# Altium integrated library Linear Technology PMIC-Switching Reg LTC1174-LTC3901.IntLib: 2647 symbols (part 121 of 310)
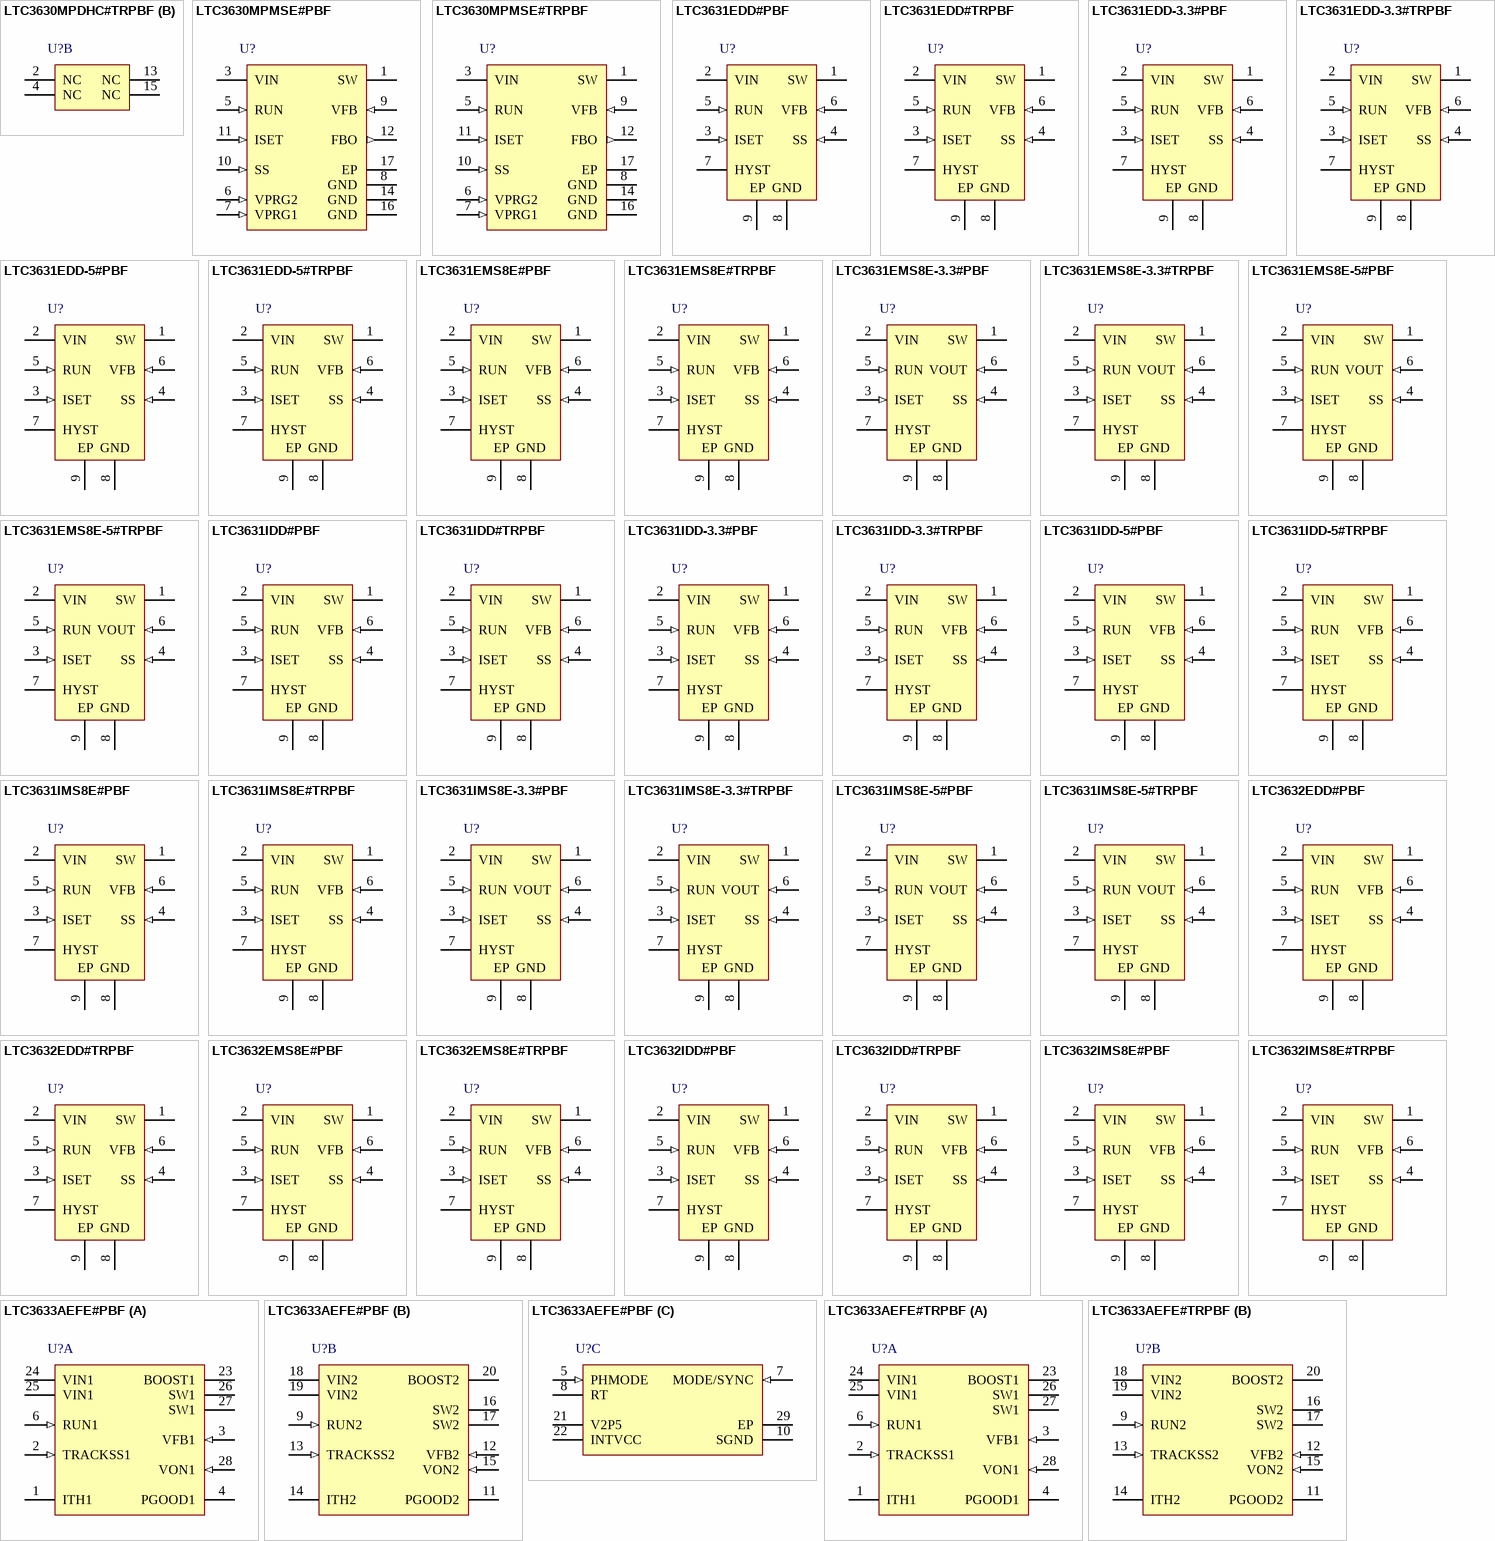
[diagram p185: symbols LTC3630MPDHC#TRPBF to LTC3633AEFE#TRPBF]

## LTC3631EMS8E#PBF
designator U?
High Efficiency, High Voltage 100 mA Synchronous Step-Down Converter, 8-pin SOP (MS8E-8), -40 to 125 degC, Pb-Free; Manufacturer: Linear Technology; PartNumber: LTC3631EMS8E#PBF; Number of Outputs: 1; Over Voltage Protection(V): 60; PackageReference: MS8E-8; PackageDescription: 8-Pin Plastic MSOP, Exposed Die Pad, Body 3 x 3 mm, Pitch 0.65 mm; Supplier 1: Digi-Key; Supplier Part Number 1: LTC3631EMS8E#PBF-ND; RoHS: TRUE
footprint LT-MS8E-8-1880X1680TP_N (SOP, 8-Leads, Body 3.1x3.1mm, Pitch 0.65mm, Thermal Pad 1.88x1.68mm, IPC Medium Density)
footprint LT-MS8E-8-1880X1680TP_L (SOP, 8-Leads, Body 3.1x3.1mm, Pitch 0.65mm, Thermal Pad 1.88x1.68mm, IPC High Density)
footprint LT-MS8E-8-1880X1680TP_M (SOP, 8-Leads, Body 3.1x3.1mm, Pitch 0.65mm, Thermal Pad 1.88x1.68mm, IPC Low Density)
pins: 1 SW (power) "Switch Node Connection to Inductor. This pin connects to the drains of the internal power MOSFET switches.", 2 VIN (power) "Main Supply Pin. A ceramic bypass capacitor should be tied between this pin and GND (Pin 8).", 3 ISET (in), 4 SS (in), 5 RUN (in), 6 VFB (in) "Ground Connection for Internal Circuitry and Power Path Return. Tie directly to local ground plane.", 7 HYST (oc), 8 GND (power) "Ground.", 9 EP (power) "The exposed pad must be soldered to the printed circuit board ground plane for optimal electrical and thermal performance."

## LTC3631EMS8E#TRPBF
designator U?
High Efficiency, High Voltage 100 mA Synchronous Step-Down Converter, 8-pin SOP (MS8E-8), -40 to 125 degC, Pb-Free, Tape and Reel; Manufacturer: Linear Technology; PartNumber: LTC3631EMS8E#TRPBF; Number of Outputs: 1; Over Voltage Protection(V): 60; PackageReference: MS8E-8; PackageDescription: 8-Pin Plastic MSOP, Exposed Die Pad, Body 3 x 3 mm, Pitch 0.65 mm; Supplier 1: Digi-Key; Supplier Part Number 1: LTC3631EMS8E#TRPBF-ND; RoHS: TRUE
footprint LT-MS8E-8-1880X1680TP_N (SOP, 8-Leads, Body 3.1x3.1mm, Pitch 0.65mm, Thermal Pad 1.88x1.68mm, IPC Medium Density)
footprint LT-MS8E-8-1880X1680TP_L (SOP, 8-Leads, Body 3.1x3.1mm, Pitch 0.65mm, Thermal Pad 1.88x1.68mm, IPC High Density)
footprint LT-MS8E-8-1880X1680TP_M (SOP, 8-Leads, Body 3.1x3.1mm, Pitch 0.65mm, Thermal Pad 1.88x1.68mm, IPC Low Density)
pins: 1 SW (power) "Switch Node Connection to Inductor. This pin connects to the drains of the internal power MOSFET switches.", 2 VIN (power) "Main Supply Pin. A ceramic bypass capacitor should be tied between this pin and GND (Pin 8).", 3 ISET (in), 4 SS (in), 5 RUN (in), 6 VFB (in) "Ground Connection for Internal Circuitry and Power Path Return. Tie directly to local ground plane.", 7 HYST (oc), 8 GND (power) "Ground.", 9 EP (power) "The exposed pad must be soldered to the printed circuit board ground plane for optimal electrical and thermal performance."

## LTC3631EMS8E-3.3#PBF
designator U?
High Efficiency, High Voltage 100 mA Synchronous Step-Down Converter, 8-pin SOP (MS8E-8), -40 to 125 degC, Pb-Free; Manufacturer: Linear Technology; PartNumber: LTC3631EMS8E-3.3#PBF; Number of Outputs: 1; Over Voltage Protection(V): 60; PackageReference: MS8E-8; PackageDescription: 8-Pin Plastic MSOP, Exposed Die Pad, Body 3 x 3 mm, Pitch 0.65 mm; Supplier 1: Digi-Key; Supplier Part Number 1: LTC3631EMS8E-3.3#PBF-ND; RoHS: TRUE
footprint LT-MS8E-8-1880X1680TP_N (SOP, 8-Leads, Body 3.1x3.1mm, Pitch 0.65mm, Thermal Pad 1.88x1.68mm, IPC Medium Density)
footprint LT-MS8E-8-1880X1680TP_L (SOP, 8-Leads, Body 3.1x3.1mm, Pitch 0.65mm, Thermal Pad 1.88x1.68mm, IPC High Density)
footprint LT-MS8E-8-1880X1680TP_M (SOP, 8-Leads, Body 3.1x3.1mm, Pitch 0.65mm, Thermal Pad 1.88x1.68mm, IPC Low Density)
pins: 1 SW (power) "Switch Node Connection to Inductor. This pin connects to the drains of the internal power MOSFET switches.", 2 VIN (power) "Main Supply Pin. A ceramic bypass capacitor should be tied between this pin and GND (Pin 8).", 3 ISET (in), 4 SS (in) "Soft-Start Control Input. A capacitor to ground at this pin sets the ramp time to full current output during start-up. A 5uA current is sourced out of this pin. If left floating, the ramp time defaults to an internal 0.75ms (See Datasheet)", 5 RUN (in), 6 VOUT (in) "Output Voltage Feedback. For the fixed output versions, connect this pin to the output supply.", 7 HYST (oc) "Run Hysteresis Open-Drain Logic Output. This pin is pulled to ground when RUN (Pin 5) is below 1.2V. This pin can be used to adjust the RUN pin hysteresis. See Applications Information.", 8 GND (power) "Ground.", 9 EP (power) "The exposed pad must be soldered to the printed circuit board ground plane for optimal electrical and thermal performance."

## LTC3631EMS8E-3.3#TRPBF
designator U?
High Efficiency, High Voltage 100 mA Synchronous Step-Down Converter, 8-pin SOP (MS8E-8), -40 to 125 degC, Pb-Free, Tape and Reel; Manufacturer: Linear Technology; PartNumber: LTC3631EMS8E-3.3#TRPBF; Number of Outputs: 1; Over Voltage Protection(V): 60; PackageReference: MS8E-8; PackageDescription: 8-Pin Plastic MSOP, Exposed Die Pad, Body 3 x 3 mm, Pitch 0.65 mm; Supplier 1: Digi-Key; Supplier Part Number 1: LTC3631EMS8E-3.3#TRPBF-ND; RoHS: TRUE
footprint LT-MS8E-8-1880X1680TP_N (SOP, 8-Leads, Body 3.1x3.1mm, Pitch 0.65mm, Thermal Pad 1.88x1.68mm, IPC Medium Density)
footprint LT-MS8E-8-1880X1680TP_L (SOP, 8-Leads, Body 3.1x3.1mm, Pitch 0.65mm, Thermal Pad 1.88x1.68mm, IPC High Density)
footprint LT-MS8E-8-1880X1680TP_M (SOP, 8-Leads, Body 3.1x3.1mm, Pitch 0.65mm, Thermal Pad 1.88x1.68mm, IPC Low Density)
pins: 1 SW (power) "Switch Node Connection to Inductor. This pin connects to the drains of the internal power MOSFET switches.", 2 VIN (power) "Main Supply Pin. A ceramic bypass capacitor should be tied between this pin and GND (Pin 8).", 3 ISET (in), 4 SS (in) "Soft-Start Control Input. A capacitor to ground at this pin sets the ramp time to full current output during start-up. A 5uA current is sourced out of this pin. If left floating, the ramp time defaults to an internal 0.75ms (See Datasheet)", 5 RUN (in), 6 VOUT (in) "Output Voltage Feedback. For the fixed output versions, connect this pin to the output supply.", 7 HYST (oc) "Run Hysteresis Open-Drain Logic Output. This pin is pulled to ground when RUN (Pin 5) is below 1.2V. This pin can be used to adjust the RUN pin hysteresis. See Applications Information.", 8 GND (power) "Ground.", 9 EP (power) "The exposed pad must be soldered to the printed circuit board ground plane for optimal electrical and thermal performance."

## LTC3631EMS8E-5#PBF
designator U?
High Efficiency, High Voltage 100 mA Synchronous Step-Down Converter, 8-pin SOP (MS8E-8), -40 to 125 degC, Pb-Free; Manufacturer: Linear Technology; PartNumber: LTC3631EMS8E-5#PBF; Number of Outputs: 1; Over Voltage Protection(V): 60; PackageReference: MS8E-8; PackageDescription: 8-Pin Plastic MSOP, Exposed Die Pad, Body 3 x 3 mm, Pitch 0.65 mm; Supplier 1: Digi-Key; Supplier Part Number 1: LTC3631EMS8E-5#PBF-ND; RoHS: TRUE
footprint LT-MS8E-8-1880X1680TP_N (SOP, 8-Leads, Body 3.1x3.1mm, Pitch 0.65mm, Thermal Pad 1.88x1.68mm, IPC Medium Density)
footprint LT-MS8E-8-1880X1680TP_L (SOP, 8-Leads, Body 3.1x3.1mm, Pitch 0.65mm, Thermal Pad 1.88x1.68mm, IPC High Density)
footprint LT-MS8E-8-1880X1680TP_M (SOP, 8-Leads, Body 3.1x3.1mm, Pitch 0.65mm, Thermal Pad 1.88x1.68mm, IPC Low Density)
pins: 1 SW (power) "Switch Node Connection to Inductor. This pin connects to the drains of the internal power MOSFET switches.", 2 VIN (power) "Main Supply Pin. A ceramic bypass capacitor should be tied between this pin and GND (Pin 8).", 3 ISET (in), 4 SS (in) "Soft-Start Control Input. A capacitor to ground at this pin sets the ramp time to full current output during start-up. A 5uA current is sourced out of this pin. If left floating, the ramp time defaults to an internal 0.75ms (See Datasheet)", 5 RUN (in), 6 VOUT (in) "Output Voltage Feedback. For the fixed output versions, connect this pin to the output supply.", 7 HYST (oc) "Run Hysteresis Open-Drain Logic Output. This pin is pulled to ground when RUN (Pin 5) is below 1.2V. This pin can be used to adjust the RUN pin hysteresis. See Applications Information.", 8 GND (power) "Ground.", 9 EP (power) "The exposed pad must be soldered to the printed circuit board ground plane for optimal electrical and thermal performance."

## LTC3631EMS8E-5#TRPBF
designator U?
High Efficiency, High Voltage 100 mA Synchronous Step-Down Converter, 8-pin SOP (MS8E-8), -40 to 125 degC, Pb-Free, Tape and Reel; Manufacturer: Linear Technology; PartNumber: LTC3631EMS8E-5#TRPBF; Number of Outputs: 1; Over Voltage Protection(V): 60; PackageReference: MS8E-8; PackageDescription: 8-Pin Plastic MSOP, Exposed Die Pad, Body 3 x 3 mm, Pitch 0.65 mm; Supplier 1: Digi-Key; Supplier Part Number 1: LTC3631EMS8E-5#TRPBFTR-ND; RoHS: TRUE
footprint LT-MS8E-8-1880X1680TP_N (SOP, 8-Leads, Body 3.1x3.1mm, Pitch 0.65mm, Thermal Pad 1.88x1.68mm, IPC Medium Density)
footprint LT-MS8E-8-1880X1680TP_L (SOP, 8-Leads, Body 3.1x3.1mm, Pitch 0.65mm, Thermal Pad 1.88x1.68mm, IPC High Density)
footprint LT-MS8E-8-1880X1680TP_M (SOP, 8-Leads, Body 3.1x3.1mm, Pitch 0.65mm, Thermal Pad 1.88x1.68mm, IPC Low Density)
pins: 1 SW (power) "Switch Node Connection to Inductor. This pin connects to the drains of the internal power MOSFET switches.", 2 VIN (power) "Main Supply Pin. A ceramic bypass capacitor should be tied between this pin and GND (Pin 8).", 3 ISET (in), 4 SS (in) "Soft-Start Control Input. A capacitor to ground at this pin sets the ramp time to full current output during start-up. A 5uA current is sourced out of this pin. If left floating, the ramp time defaults to an internal 0.75ms (See Datasheet)", 5 RUN (in), 6 VOUT (in) "Output Voltage Feedback. For the fixed output versions, connect this pin to the output supply.", 7 HYST (oc) "Run Hysteresis Open-Drain Logic Output. This pin is pulled to ground when RUN (Pin 5) is below 1.2V. This pin can be used to adjust the RUN pin hysteresis. See Applications Information.", 8 GND (power) "Ground.", 9 EP (power) "The exposed pad must be soldered to the printed circuit board ground plane for optimal electrical and thermal performance."

## LTC3631IDD#PBF
designator U?
High Efficiency, High Voltage 100 mA Synchronous Step-Down Converter, 8-pin SON (DD-8), -40 to 125 degC, Pb-Free; Manufacturer: Linear Technology; PartNumber: LTC3631IDD#PBF; Number of Outputs: 1; Over Voltage Protection(V): 60; PackageReference: DD-8; PackageDescription: 8-Pin Plastic DFN, Body 3 x 3 mm, Pitch 0.5 mm; Supplier 1: Digi-Key; Supplier Part Number 1: LTC3631IDD#PBF-ND; RoHS: TRUE; Code_JEDEC: MO-229
footprint LT-DD-8_V (SON, 8-Leads, Body 3x3mm, Pitch 0.5mm, Thermal Pad 1.65x2.38 mm)
pins: 1 SW (power) "Switch Node Connection to Inductor. This pin connects to the drains of the internal power MOSFET switches.", 2 VIN (power) "Main Supply Pin. A ceramic bypass capacitor should be tied between this pin and GND (Pin 8).", 3 ISET (in), 4 SS (in) "Soft-Start Control Input. A capacitor to ground at this pin sets the ramp time to full current output during start-up. A 5uA current is sourced out of this pin. If left floating, the ramp time defaults to an internal 0.75ms (See Datasheet)", 5 RUN (in), 6 VFB (in) "Output Voltage Feedback. For the fixed output versions, connect this pin to the output supply. For the adjustable version, an external resistive divider should be used to divide the output voltage down for comparison to the (See Datasheet)", 7 HYST (oc) "Run Hysteresis Open-Drain Logic Output. This pin is pulled to ground when RUN (Pin 5) is below 1.2V. This pin can be used to adjust the RUN pin hysteresis. See Applications Information.", 8 GND (power) "Ground. The exposed pad must be soldered to the printed circuit board ground plane for optimal electrical and thermal performance.", 9 EP (power) "Ground. The exposed pad must be soldered to the printed circuit board ground plane for optimal electrical and thermal performance."

## LTC3631IDD#TRPBF
designator U?
High Efficiency, High Voltage 100 mA Synchronous Step-Down Converter, 8-pin SON (DD-8), -40 to 125 degC, Pb-Free, Tape and Reel; Manufacturer: Linear Technology; PartNumber: LTC3631IDD#TRPBF; Number of Outputs: 1; Over Voltage Protection(V): 60; PackageReference: DD-8; PackageDescription: 8-Pin Plastic DFN, Body 3 x 3 mm, Pitch 0.5 mm; Supplier 1: Digi-Key; Supplier Part Number 1: LTC3631IDD#TRPBF-ND; RoHS: TRUE; Code_JEDEC: MO-229
footprint LT-DD-8_V (SON, 8-Leads, Body 3x3mm, Pitch 0.5mm, Thermal Pad 1.65x2.38 mm)
pins: 1 SW (power) "Switch Node Connection to Inductor. This pin connects to the drains of the internal power MOSFET switches.", 2 VIN (power) "Main Supply Pin. A ceramic bypass capacitor should be tied between this pin and GND (Pin 8).", 3 ISET (in), 4 SS (in) "Soft-Start Control Input. A capacitor to ground at this pin sets the ramp time to full current output during start-up. A 5uA current is sourced out of this pin. If left floating, the ramp time defaults to an internal 0.75ms (See Datasheet)", 5 RUN (in), 6 VFB (in) "Output Voltage Feedback. For the fixed output versions, connect this pin to the output supply. For the adjustable version, an external resistive divider should be used to divide the output voltage down for comparison to the (See Datasheet)", 7 HYST (oc) "Run Hysteresis Open-Drain Logic Output. This pin is pulled to ground when RUN (Pin 5) is below 1.2V. This pin can be used to adjust the RUN pin hysteresis. See Applications Information.", 8 GND (power) "Ground. The exposed pad must be soldered to the printed circuit board ground plane for optimal electrical and thermal performance.", 9 EP (power) "Ground. The exposed pad must be soldered to the printed circuit board ground plane for optimal electrical and thermal performance."

## LTC3631IDD-3.3#PBF
designator U?
High Efficiency, High Voltage 100 mA Synchronous Step-Down Converter, 8-pin SON (DD-8), -40 to 125 degC, Pb-Free; Manufacturer: Linear Technology; PartNumber: LTC3631IDD-3.3#PBF; Number of Outputs: 1; Over Voltage Protection(V): 60; PackageReference: DD-8; PackageDescription: 8-Pin Plastic DFN, Body 3 x 3 mm, Pitch 0.5 mm; Supplier 1: Digi-Key; Supplier Part Number 1: LTC3631IDD-3.3#PBF-ND; RoHS: TRUE; Code_JEDEC: MO-229
footprint LT-DD-8_V (SON, 8-Leads, Body 3x3mm, Pitch 0.5mm, Thermal Pad 1.65x2.38 mm)
pins: 1 SW (power) "Switch Node Connection to Inductor. This pin connects to the drains of the internal power MOSFET switches.", 2 VIN (power) "Main Supply Pin. A ceramic bypass capacitor should be tied between this pin and GND (Pin 8).", 3 ISET (in), 4 SS (in) "Soft-Start Control Input. A capacitor to ground at this pin sets the ramp time to full current output during start-up. A 5uA current is sourced out of this pin. If left floating, the ramp time defaults to an internal 0.75ms (See Datasheet)", 5 RUN (in), 6 VFB (in) "Output Voltage Feedback. For the fixed output versions, connect this pin to the output supply. For the adjustable version, an external resistive divider should be used to divide the output voltage down for comparison to the (See Datasheet)", 7 HYST (oc) "Run Hysteresis Open-Drain Logic Output. This pin is pulled to ground when RUN (Pin 5) is below 1.2V. This pin can be used to adjust the RUN pin hysteresis. See Applications Information.", 8 GND (power) "Ground. The exposed pad must be soldered to the printed circuit board ground plane for optimal electrical and thermal performance.", 9 EP (power) "Ground. The exposed pad must be soldered to the printed circuit board ground plane for optimal electrical and thermal performance."

## LTC3631IDD-3.3#TRPBF
designator U?
High Efficiency, High Voltage 100 mA Synchronous Step-Down Converter, 8-pin SON (DD-8), -40 to 125 degC, Pb-Free, Tape and Reel; Manufacturer: Linear Technology; PartNumber: LTC3631IDD-3.3#TRPBF; Number of Outputs: 1; Over Voltage Protection(V): 60; PackageReference: DD-8; PackageDescription: 8-Pin Plastic DFN, Body 3 x 3 mm, Pitch 0.5 mm; Supplier 1: Digi-Key; Supplier Part Number 1: LTC3631IDD-3.3#TRPBF-ND; RoHS: TRUE; Code_JEDEC: MO-229
footprint LT-DD-8_V (SON, 8-Leads, Body 3x3mm, Pitch 0.5mm, Thermal Pad 1.65x2.38 mm)
pins: 1 SW (power) "Switch Node Connection to Inductor. This pin connects to the drains of the internal power MOSFET switches.", 2 VIN (power) "Main Supply Pin. A ceramic bypass capacitor should be tied between this pin and GND (Pin 8).", 3 ISET (in), 4 SS (in) "Soft-Start Control Input. A capacitor to ground at this pin sets the ramp time to full current output during start-up. A 5uA current is sourced out of this pin. If left floating, the ramp time defaults to an internal 0.75ms (See Datasheet)", 5 RUN (in), 6 VFB (in) "Output Voltage Feedback. For the fixed output versions, connect this pin to the output supply. For the adjustable version, an external resistive divider should be used to divide the output voltage down for comparison to the (See Datasheet)", 7 HYST (oc) "Run Hysteresis Open-Drain Logic Output. This pin is pulled to ground when RUN (Pin 5) is below 1.2V. This pin can be used to adjust the RUN pin hysteresis. See Applications Information.", 8 GND (power) "Ground. The exposed pad must be soldered to the printed circuit board ground plane for optimal electrical and thermal performance.", 9 EP (power) "Ground. The exposed pad must be soldered to the printed circuit board ground plane for optimal electrical and thermal performance."

## LTC3631IDD-5#PBF
designator U?
High Efficiency, High Voltage 100 mA Synchronous Step-Down Converter, 8-pin SON (DD-8), -40 to 125 degC, Pb-Free; Manufacturer: Linear Technology; PartNumber: LTC3631IDD-5#PBF; Number of Outputs: 1; Over Voltage Protection(V): 60; PackageReference: DD-8; PackageDescription: 8-Pin Plastic DFN, Body 3 x 3 mm, Pitch 0.5 mm; Supplier 1: Digi-Key; Supplier Part Number 1: LTC3631IDD-5#PBF-ND; RoHS: TRUE; Code_JEDEC: MO-229
footprint LT-DD-8_V (SON, 8-Leads, Body 3x3mm, Pitch 0.5mm, Thermal Pad 1.65x2.38 mm)
pins: 1 SW (power) "Switch Node Connection to Inductor. This pin connects to the drains of the internal power MOSFET switches.", 2 VIN (power) "Main Supply Pin. A ceramic bypass capacitor should be tied between this pin and GND (Pin 8).", 3 ISET (in), 4 SS (in) "Soft-Start Control Input. A capacitor to ground at this pin sets the ramp time to full current output during start-up. A 5uA current is sourced out of this pin. If left floating, the ramp time defaults to an internal 0.75ms (See Datasheet)", 5 RUN (in), 6 VFB (in) "Output Voltage Feedback. For the fixed output versions, connect this pin to the output supply. For the adjustable version, an external resistive divider should be used to divide the output voltage down for comparison to the (See Datasheet)", 7 HYST (oc) "Run Hysteresis Open-Drain Logic Output. This pin is pulled to ground when RUN (Pin 5) is below 1.2V. This pin can be used to adjust the RUN pin hysteresis. See Applications Information.", 8 GND (power) "Ground. The exposed pad must be soldered to the printed circuit board ground plane for optimal electrical and thermal performance.", 9 EP (power) "Ground. The exposed pad must be soldered to the printed circuit board ground plane for optimal electrical and thermal performance."

## LTC3631IDD-5#TRPBF
designator U?
High Efficiency, High Voltage 100 mA Synchronous Step-Down Converter, 8-pin SON (DD-8), -40 to 125 degC, Pb-Free, Tape and Reel; Manufacturer: Linear Technology; PartNumber: LTC3631IDD-5#TRPBF; Number of Outputs: 1; Over Voltage Protection(V): 60; PackageReference: DD-8; PackageDescription: 8-Pin Plastic DFN, Body 3 x 3 mm, Pitch 0.5 mm; Supplier 1: Digi-Key; Supplier Part Number 1: LTC3631IDD-5#TRPBF-ND; RoHS: TRUE; Code_JEDEC: MO-229
footprint LT-DD-8_V (SON, 8-Leads, Body 3x3mm, Pitch 0.5mm, Thermal Pad 1.65x2.38 mm)
pins: 1 SW (power) "Switch Node Connection to Inductor. This pin connects to the drains of the internal power MOSFET switches.", 2 VIN (power) "Main Supply Pin. A ceramic bypass capacitor should be tied between this pin and GND (Pin 8).", 3 ISET (in), 4 SS (in) "Soft-Start Control Input. A capacitor to ground at this pin sets the ramp time to full current output during start-up. A 5uA current is sourced out of this pin. If left floating, the ramp time defaults to an internal 0.75ms (See Datasheet)", 5 RUN (in), 6 VFB (in) "Output Voltage Feedback. For the fixed output versions, connect this pin to the output supply. For the adjustable version, an external resistive divider should be used to divide the output voltage down for comparison to the (See Datasheet)", 7 HYST (oc) "Run Hysteresis Open-Drain Logic Output. This pin is pulled to ground when RUN (Pin 5) is below 1.2V. This pin can be used to adjust the RUN pin hysteresis. See Applications Information.", 8 GND (power) "Ground. The exposed pad must be soldered to the printed circuit board ground plane for optimal electrical and thermal performance.", 9 EP (power) "Ground. The exposed pad must be soldered to the printed circuit board ground plane for optimal electrical and thermal performance."

## LTC3631IMS8E#PBF
designator U?
High Efficiency, High Voltage 100 mA Synchronous Step-Down Converter, 8-pin SOP (MS8E-8), -40 to 125 degC, Pb-Free; Manufacturer: Linear Technology; PartNumber: LTC3631IMS8E#PBF; Number of Outputs: 1; Over Voltage Protection(V): 60; PackageReference: MS8E-8; PackageDescription: 8-Pin Plastic MSOP, Exposed Die Pad, Body 3 x 3 mm, Pitch 0.65 mm; Supplier 1: Digi-Key; Supplier Part Number 1: LTC3631IMS8E#PBF-ND; RoHS: TRUE
footprint LT-MS8E-8-1880X1680TP_N (SOP, 8-Leads, Body 3.1x3.1mm, Pitch 0.65mm, Thermal Pad 1.88x1.68mm, IPC Medium Density)
footprint LT-MS8E-8-1880X1680TP_L (SOP, 8-Leads, Body 3.1x3.1mm, Pitch 0.65mm, Thermal Pad 1.88x1.68mm, IPC High Density)
footprint LT-MS8E-8-1880X1680TP_M (SOP, 8-Leads, Body 3.1x3.1mm, Pitch 0.65mm, Thermal Pad 1.88x1.68mm, IPC Low Density)
pins: 1 SW (power) "Switch Node Connection to Inductor. This pin connects to the drains of the internal power MOSFET switches.", 2 VIN (power) "Main Supply Pin. A ceramic bypass capacitor should be tied between this pin and GND (Pin 8).", 3 ISET (in), 4 SS (in), 5 RUN (in), 6 VFB (in) "Ground Connection for Internal Circuitry and Power Path Return. Tie directly to local ground plane.", 7 HYST (oc), 8 GND (power) "Ground.", 9 EP (power) "The exposed pad must be soldered to the printed circuit board ground plane for optimal electrical and thermal performance."

## LTC3631IMS8E#TRPBF
designator U?
High Efficiency, High Voltage 100 mA Synchronous Step-Down Converter, 8-pin SOP (MS8E-8), -40 to 125 degC, Pb-Free, Tape and Reel; Manufacturer: Linear Technology; PartNumber: LTC3631IMS8E#TRPBF; Number of Outputs: 1; Over Voltage Protection(V): 60; PackageReference: MS8E-8; PackageDescription: 8-Pin Plastic MSOP, Exposed Die Pad, Body 3 x 3 mm, Pitch 0.65 mm; Supplier 1: Digi-Key; Supplier Part Number 1: LTC3631IMS8E#TRPBF-ND; RoHS: TRUE
footprint LT-MS8E-8-1880X1680TP_N (SOP, 8-Leads, Body 3.1x3.1mm, Pitch 0.65mm, Thermal Pad 1.88x1.68mm, IPC Medium Density)
footprint LT-MS8E-8-1880X1680TP_L (SOP, 8-Leads, Body 3.1x3.1mm, Pitch 0.65mm, Thermal Pad 1.88x1.68mm, IPC High Density)
footprint LT-MS8E-8-1880X1680TP_M (SOP, 8-Leads, Body 3.1x3.1mm, Pitch 0.65mm, Thermal Pad 1.88x1.68mm, IPC Low Density)
pins: 1 SW (power) "Switch Node Connection to Inductor. This pin connects to the drains of the internal power MOSFET switches.", 2 VIN (power) "Main Supply Pin. A ceramic bypass capacitor should be tied between this pin and GND (Pin 8).", 3 ISET (in), 4 SS (in), 5 RUN (in), 6 VFB (in) "Ground Connection for Internal Circuitry and Power Path Return. Tie directly to local ground plane.", 7 HYST (oc), 8 GND (power) "Ground.", 9 EP (power) "The exposed pad must be soldered to the printed circuit board ground plane for optimal electrical and thermal performance."

## LTC3631IMS8E-3.3#PBF
designator U?
High Efficiency, High Voltage 100 mA Synchronous Step-Down Converter, 8-pin SOP (MS8E-8), -40 to 125 degC, Pb-Free; Manufacturer: Linear Technology; PartNumber: LTC3631IMS8E-3.3#PBF; Number of Outputs: 1; Over Voltage Protection(V): 60; PackageReference: MS8E-8; PackageDescription: 8-Pin Plastic MSOP, Exposed Die Pad, Body 3 x 3 mm, Pitch 0.65 mm; Supplier 1: Digi-Key; Supplier Part Number 1: LTC3631IMS8E-3.3#PBF-ND; RoHS: TRUE
footprint LT-MS8E-8-1880X1680TP_N (SOP, 8-Leads, Body 3.1x3.1mm, Pitch 0.65mm, Thermal Pad 1.88x1.68mm, IPC Medium Density)
footprint LT-MS8E-8-1880X1680TP_L (SOP, 8-Leads, Body 3.1x3.1mm, Pitch 0.65mm, Thermal Pad 1.88x1.68mm, IPC High Density)
footprint LT-MS8E-8-1880X1680TP_M (SOP, 8-Leads, Body 3.1x3.1mm, Pitch 0.65mm, Thermal Pad 1.88x1.68mm, IPC Low Density)
pins: 1 SW (power) "Switch Node Connection to Inductor. This pin connects to the drains of the internal power MOSFET switches.", 2 VIN (power) "Main Supply Pin. A ceramic bypass capacitor should be tied between this pin and GND (Pin 8).", 3 ISET (in), 4 SS (in) "Soft-Start Control Input. A capacitor to ground at this pin sets the ramp time to full current output during start-up. A 5uA current is sourced out of this pin. If left floating, the ramp time defaults to an internal 0.75ms (See Datasheet)", 5 RUN (in), 6 VOUT (in) "Output Voltage Feedback. For the fixed output versions, connect this pin to the output supply.", 7 HYST (oc) "Run Hysteresis Open-Drain Logic Output. This pin is pulled to ground when RUN (Pin 5) is below 1.2V. This pin can be used to adjust the RUN pin hysteresis. See Applications Information.", 8 GND (power) "Ground.", 9 EP (power) "The exposed pad must be soldered to the printed circuit board ground plane for optimal electrical and thermal performance."

## LTC3631IMS8E-3.3#TRPBF
designator U?
High Efficiency, High Voltage 100 mA Synchronous Step-Down Converter, 8-pin SOP (MS8E-8), -40 to 125 degC, Pb-Free, Tape and Reel; Manufacturer: Linear Technology; PartNumber: LTC3631IMS8E-3.3#TRPBF; Number of Outputs: 1; Over Voltage Protection(V): 60; PackageReference: MS8E-8; PackageDescription: 8-Pin Plastic MSOP, Exposed Die Pad, Body 3 x 3 mm, Pitch 0.65 mm; Supplier 1: Digi-Key; Supplier Part Number 1: LTC3631IMS8E-3.3#TRPBF-ND; RoHS: TRUE
footprint LT-MS8E-8-1880X1680TP_N (SOP, 8-Leads, Body 3.1x3.1mm, Pitch 0.65mm, Thermal Pad 1.88x1.68mm, IPC Medium Density)
footprint LT-MS8E-8-1880X1680TP_L (SOP, 8-Leads, Body 3.1x3.1mm, Pitch 0.65mm, Thermal Pad 1.88x1.68mm, IPC High Density)
footprint LT-MS8E-8-1880X1680TP_M (SOP, 8-Leads, Body 3.1x3.1mm, Pitch 0.65mm, Thermal Pad 1.88x1.68mm, IPC Low Density)
pins: 1 SW (power) "Switch Node Connection to Inductor. This pin connects to the drains of the internal power MOSFET switches.", 2 VIN (power) "Main Supply Pin. A ceramic bypass capacitor should be tied between this pin and GND (Pin 8).", 3 ISET (in), 4 SS (in) "Soft-Start Control Input. A capacitor to ground at this pin sets the ramp time to full current output during start-up. A 5uA current is sourced out of this pin. If left floating, the ramp time defaults to an internal 0.75ms (See Datasheet)", 5 RUN (in), 6 VOUT (in) "Output Voltage Feedback. For the fixed output versions, connect this pin to the output supply.", 7 HYST (oc) "Run Hysteresis Open-Drain Logic Output. This pin is pulled to ground when RUN (Pin 5) is below 1.2V. This pin can be used to adjust the RUN pin hysteresis. See Applications Information.", 8 GND (power) "Ground.", 9 EP (power) "The exposed pad must be soldered to the printed circuit board ground plane for optimal electrical and thermal performance."

## LTC3631IMS8E-5#PBF
designator U?
High Efficiency, High Voltage 100 mA Synchronous Step-Down Converter, 8-pin SOP (MS8E-8), -40 to 125 degC, Pb-Free; Manufacturer: Linear Technology; PartNumber: LTC3631IMS8E-5#PBF; Number of Outputs: 1; Over Voltage Protection(V): 60; PackageReference: MS8E-8; PackageDescription: 8-Pin Plastic MSOP, Exposed Die Pad, Body 3 x 3 mm, Pitch 0.65 mm; Supplier 1: Digi-Key; Supplier Part Number 1: LTC3631IMS8E-5#PBF-ND; RoHS: TRUE
footprint LT-MS8E-8-1880X1680TP_N (SOP, 8-Leads, Body 3.1x3.1mm, Pitch 0.65mm, Thermal Pad 1.88x1.68mm, IPC Medium Density)
footprint LT-MS8E-8-1880X1680TP_L (SOP, 8-Leads, Body 3.1x3.1mm, Pitch 0.65mm, Thermal Pad 1.88x1.68mm, IPC High Density)
footprint LT-MS8E-8-1880X1680TP_M (SOP, 8-Leads, Body 3.1x3.1mm, Pitch 0.65mm, Thermal Pad 1.88x1.68mm, IPC Low Density)
pins: 1 SW (power) "Switch Node Connection to Inductor. This pin connects to the drains of the internal power MOSFET switches.", 2 VIN (power) "Main Supply Pin. A ceramic bypass capacitor should be tied between this pin and GND (Pin 8).", 3 ISET (in), 4 SS (in) "Soft-Start Control Input. A capacitor to ground at this pin sets the ramp time to full current output during start-up. A 5uA current is sourced out of this pin. If left floating, the ramp time defaults to an internal 0.75ms (See Datasheet)", 5 RUN (in), 6 VOUT (in) "Output Voltage Feedback. For the fixed output versions, connect this pin to the output supply.", 7 HYST (oc) "Run Hysteresis Open-Drain Logic Output. This pin is pulled to ground when RUN (Pin 5) is below 1.2V. This pin can be used to adjust the RUN pin hysteresis. See Applications Information.", 8 GND (power) "Ground.", 9 EP (power) "The exposed pad must be soldered to the printed circuit board ground plane for optimal electrical and thermal performance."

## LTC3631IMS8E-5#TRPBF
designator U?
High Efficiency, High Voltage 100 mA Synchronous Step-Down Converter, 8-pin SOP (MS8E-8), -40 to 125 degC, Pb-Free, Tape and Reel; Manufacturer: Linear Technology; PartNumber: LTC3631IMS8E-5#TRPBF; Number of Outputs: 1; Over Voltage Protection(V): 60; PackageReference: MS8E-8; PackageDescription: 8-Pin Plastic MSOP, Exposed Die Pad, Body 3 x 3 mm, Pitch 0.65 mm; Supplier 1: Digi-Key; Supplier Part Number 1: LTC3631IMS8E-5#TRPBF-ND; RoHS: TRUE
footprint LT-MS8E-8-1880X1680TP_N (SOP, 8-Leads, Body 3.1x3.1mm, Pitch 0.65mm, Thermal Pad 1.88x1.68mm, IPC Medium Density)
footprint LT-MS8E-8-1880X1680TP_L (SOP, 8-Leads, Body 3.1x3.1mm, Pitch 0.65mm, Thermal Pad 1.88x1.68mm, IPC High Density)
footprint LT-MS8E-8-1880X1680TP_M (SOP, 8-Leads, Body 3.1x3.1mm, Pitch 0.65mm, Thermal Pad 1.88x1.68mm, IPC Low Density)
pins: 1 SW (power) "Switch Node Connection to Inductor. This pin connects to the drains of the internal power MOSFET switches.", 2 VIN (power) "Main Supply Pin. A ceramic bypass capacitor should be tied between this pin and GND (Pin 8).", 3 ISET (in), 4 SS (in) "Soft-Start Control Input. A capacitor to ground at this pin sets the ramp time to full current output during start-up. A 5uA current is sourced out of this pin. If left floating, the ramp time defaults to an internal 0.75ms (See Datasheet)", 5 RUN (in), 6 VOUT (in) "Output Voltage Feedback. For the fixed output versions, connect this pin to the output supply.", 7 HYST (oc) "Run Hysteresis Open-Drain Logic Output. This pin is pulled to ground when RUN (Pin 5) is below 1.2V. This pin can be used to adjust the RUN pin hysteresis. See Applications Information.", 8 GND (power) "Ground.", 9 EP (power) "The exposed pad must be soldered to the printed circuit board ground plane for optimal electrical and thermal performance."

## LTC3632EDD#PBF
designator U?
High Efficiency, High Voltage 20 mA Synchronous Step-Down Converter, 8-pin SON (DD-8), -40 to 125 degC, Pb-Free; Manufacturer: Linear Technology; PartNumber: LTC3632EDD#PBF; Number of Outputs: 1; Over Voltage Protection(V): 60; PackageReference: DD-8; PackageDescription: 8-Pin Plastic DFN, Body 3 x 3 mm, Pitch 0.5 mm; Supplier 1: Digi-Key; Supplier Part Number 1: LTC3632EDD#PBF-ND; RoHS: TRUE; Code_JEDEC: MO-229
footprint LT-DD-8_V (SON, 8-Leads, Body 3x3mm, Pitch 0.5mm, Thermal Pad 1.65x2.38 mm)
pins: 1 SW (power) "Switch Node Connection to Inductor. This pin connects to the drains of the internal power MOSFET switches.", 2 VIN (power) "Main Supply Pin. A ceramic bypass capacitor should be tied between this pin and GND (Pin 8).", 3 ISET (in), 4 SS (in), 5 RUN (in), 6 VFB (in) "Ground Connection for Internal Circuitry and Power Path Return. Tie directly to local ground plane.", 7 HYST (oc), 8 GND (power) "Ground.", 9 EP (power) "The exposed pad must be soldered to the printed circuit board ground plane for optimal electrical and thermal performance."

## LTC3632EDD#TRPBF
designator U?
High Efficiency, High Voltage 20 mA Synchronous Step-Down Converter, 8-pin SON (DD-8), -40 to 125 degC, Pb-Free, Tape and Reel; Manufacturer: Linear Technology; PartNumber: LTC3632EDD#TRPBF; Number of Outputs: 1; Over Voltage Protection(V): 60; PackageReference: DD-8; PackageDescription: 8-Pin Plastic DFN, Body 3 x 3 mm, Pitch 0.5 mm; Supplier 1: Digi-Key; Supplier Part Number 1: LTC3632EDD#TRPBF-ND; RoHS: TRUE; Code_JEDEC: MO-229
footprint LT-DD-8_V (SON, 8-Leads, Body 3x3mm, Pitch 0.5mm, Thermal Pad 1.65x2.38 mm)
pins: 1 SW (power) "Switch Node Connection to Inductor. This pin connects to the drains of the internal power MOSFET switches.", 2 VIN (power) "Main Supply Pin. A ceramic bypass capacitor should be tied between this pin and GND (Pin 8).", 3 ISET (in), 4 SS (in), 5 RUN (in), 6 VFB (in) "Ground Connection for Internal Circuitry and Power Path Return. Tie directly to local ground plane.", 7 HYST (oc), 8 GND (power) "Ground.", 9 EP (power) "The exposed pad must be soldered to the printed circuit board ground plane for optimal electrical and thermal performance."

## LTC3632EMS8E#PBF
designator U?
High Efficiency, High Voltage 20 mA Synchronous Step-Down Converter, 8-pin SOP (MS8E-8), -40 to 125 degC, Pb-Free; Manufacturer: Linear Technology; PartNumber: LTC3632EMS8E#PBF; Number of Outputs: 1; Over Voltage Protection(V): 60; PackageReference: MS8E-8; PackageDescription: 8-Pin Plastic MSOP, Exposed Die Pad, Body 3 x 3 mm, Pitch 0.65 mm; Supplier 1: Digi-Key; Supplier Part Number 1: LTC3632EMS8E#PBF-ND; RoHS: TRUE
footprint LT-MS8E-8-1880X1680TP_N (SOP, 8-Leads, Body 3.1x3.1mm, Pitch 0.65mm, Thermal Pad 1.88x1.68mm, IPC Medium Density)
footprint LT-MS8E-8-1880X1680TP_L (SOP, 8-Leads, Body 3.1x3.1mm, Pitch 0.65mm, Thermal Pad 1.88x1.68mm, IPC High Density)
footprint LT-MS8E-8-1880X1680TP_M (SOP, 8-Leads, Body 3.1x3.1mm, Pitch 0.65mm, Thermal Pad 1.88x1.68mm, IPC Low Density)
pins: 1 SW (power) "Switch Node Connection to Inductor. This pin connects to the drains of the internal power MOSFET switches.", 2 VIN (power) "Main Supply Pin. A ceramic bypass capacitor should be tied between this pin and GND (Pin 8).", 3 ISET (in), 4 SS (in), 5 RUN (in), 6 VFB (in) "Ground Connection for Internal Circuitry and Power Path Return. Tie directly to local ground plane.", 7 HYST (oc), 8 GND (power) "Ground.", 9 EP (power) "The exposed pad must be soldered to the printed circuit board ground plane for optimal electrical and thermal performance."

## LTC3632EMS8E#TRPBF
designator U?
High Efficiency, High Voltage 20 mA Synchronous Step-Down Converter, 8-pin SOP (MS8E-8), -40 to 125 degC, Pb-Free, Tape and Reel; Manufacturer: Linear Technology; PartNumber: LTC3632EMS8E#TRPBF; Number of Outputs: 1; Over Voltage Protection(V): 60; PackageReference: MS8E-8; PackageDescription: 8-Pin Plastic MSOP, Exposed Die Pad, Body 3 x 3 mm, Pitch 0.65 mm; Supplier 1: Digi-Key; Supplier Part Number 1: LTC3632EMS8E#TRPBF-ND; RoHS: TRUE
footprint LT-MS8E-8-1880X1680TP_N (SOP, 8-Leads, Body 3.1x3.1mm, Pitch 0.65mm, Thermal Pad 1.88x1.68mm, IPC Medium Density)
footprint LT-MS8E-8-1880X1680TP_L (SOP, 8-Leads, Body 3.1x3.1mm, Pitch 0.65mm, Thermal Pad 1.88x1.68mm, IPC High Density)
footprint LT-MS8E-8-1880X1680TP_M (SOP, 8-Leads, Body 3.1x3.1mm, Pitch 0.65mm, Thermal Pad 1.88x1.68mm, IPC Low Density)
pins: 1 SW (power) "Switch Node Connection to Inductor. This pin connects to the drains of the internal power MOSFET switches.", 2 VIN (power) "Main Supply Pin. A ceramic bypass capacitor should be tied between this pin and GND (Pin 8).", 3 ISET (in), 4 SS (in), 5 RUN (in), 6 VFB (in) "Ground Connection for Internal Circuitry and Power Path Return. Tie directly to local ground plane.", 7 HYST (oc), 8 GND (power) "Ground.", 9 EP (power) "The exposed pad must be soldered to the printed circuit board ground plane for optimal electrical and thermal performance."

## LTC3632IDD#PBF
designator U?
High Efficiency, High Voltage 20 mA Synchronous Step-Down Converter, 8-pin SON (DD-8), -40 to 125 degC, Pb-Free; Manufacturer: Linear Technology; PartNumber: LTC3632IDD#PBF; Number of Outputs: 1; Over Voltage Protection(V): 60; PackageReference: DD-8; PackageDescription: 8-Pin Plastic DFN, Body 3 x 3 mm, Pitch 0.5 mm; Supplier 1: Digi-Key; Supplier Part Number 1: LTC3632IDD#PBF-ND; RoHS: TRUE; Code_JEDEC: MO-229
footprint LT-DD-8_V (SON, 8-Leads, Body 3x3mm, Pitch 0.5mm, Thermal Pad 1.65x2.38 mm)
pins: 1 SW (power) "Switch Node Connection to Inductor. This pin connects to the drains of the internal power MOSFET switches.", 2 VIN (power) "Main Supply Pin. A ceramic bypass capacitor should be tied between this pin and GND (Pin 8).", 3 ISET (in), 4 SS (in), 5 RUN (in), 6 VFB (in) "Ground Connection for Internal Circuitry and Power Path Return. Tie directly to local ground plane.", 7 HYST (oc), 8 GND (power) "Ground.", 9 EP (power) "The exposed pad must be soldered to the printed circuit board ground plane for optimal electrical and thermal performance."

## LTC3632IDD#TRPBF
designator U?
High Efficiency, High Voltage 20 mA Synchronous Step-Down Converter, 8-pin SON (DD-8), -40 to 125 degC, Pb-Free, Tape and Reel; Manufacturer: Linear Technology; PartNumber: LTC3632IDD#TRPBF; Number of Outputs: 1; Over Voltage Protection(V): 60; PackageReference: DD-8; PackageDescription: 8-Pin Plastic DFN, Body 3 x 3 mm, Pitch 0.5 mm; Supplier 1: Digi-Key; Supplier Part Number 1: LTC3632IDD#TRPBF-ND; RoHS: TRUE; Code_JEDEC: MO-229
footprint LT-DD-8_V (SON, 8-Leads, Body 3x3mm, Pitch 0.5mm, Thermal Pad 1.65x2.38 mm)
pins: 1 SW (power) "Switch Node Connection to Inductor. This pin connects to the drains of the internal power MOSFET switches.", 2 VIN (power) "Main Supply Pin. A ceramic bypass capacitor should be tied between this pin and GND (Pin 8).", 3 ISET (in), 4 SS (in), 5 RUN (in), 6 VFB (in) "Ground Connection for Internal Circuitry and Power Path Return. Tie directly to local ground plane.", 7 HYST (oc), 8 GND (power) "Ground.", 9 EP (power) "The exposed pad must be soldered to the printed circuit board ground plane for optimal electrical and thermal performance."

## LTC3632IMS8E#PBF
designator U?
High Efficiency, High Voltage 20 mA Synchronous Step-Down Converter, 8-pin SOP (MS8E-8), -40 to 125 degC, Pb-Free; Manufacturer: Linear Technology; PartNumber: LTC3632IMS8E#PBF; Number of Outputs: 1; Over Voltage Protection(V): 60; PackageReference: MS8E-8; PackageDescription: 8-Pin Plastic MSOP, Exposed Die Pad, Body 3 x 3 mm, Pitch 0.65 mm; Supplier 1: Digi-Key; Supplier Part Number 1: LTC3632IMS8E#PBF-ND; RoHS: TRUE
footprint LT-MS8E-8-1880X1680TP_N (SOP, 8-Leads, Body 3.1x3.1mm, Pitch 0.65mm, Thermal Pad 1.88x1.68mm, IPC Medium Density)
footprint LT-MS8E-8-1880X1680TP_L (SOP, 8-Leads, Body 3.1x3.1mm, Pitch 0.65mm, Thermal Pad 1.88x1.68mm, IPC High Density)
footprint LT-MS8E-8-1880X1680TP_M (SOP, 8-Leads, Body 3.1x3.1mm, Pitch 0.65mm, Thermal Pad 1.88x1.68mm, IPC Low Density)
pins: 1 SW (power) "Switch Node Connection to Inductor. This pin connects to the drains of the internal power MOSFET switches.", 2 VIN (power) "Main Supply Pin. A ceramic bypass capacitor should be tied between this pin and GND (Pin 8).", 3 ISET (in), 4 SS (in), 5 RUN (in), 6 VFB (in) "Ground Connection for Internal Circuitry and Power Path Return. Tie directly to local ground plane.", 7 HYST (oc), 8 GND (power) "Ground.", 9 EP (power) "The exposed pad must be soldered to the printed circuit board ground plane for optimal electrical and thermal performance."

## LTC3632IMS8E#TRPBF
designator U?
High Efficiency, High Voltage 20 mA Synchronous Step-Down Converter, 8-pin SOP (MS8E-8), -40 to 125 degC, Pb-Free, Tape and Reel; Manufacturer: Linear Technology; PartNumber: LTC3632IMS8E#TRPBF; Number of Outputs: 1; Over Voltage Protection(V): 60; PackageReference: MS8E-8; PackageDescription: 8-Pin Plastic MSOP, Exposed Die Pad, Body 3 x 3 mm, Pitch 0.65 mm; Supplier 1: Digi-Key; Supplier Part Number 1: LTC3632IMS8E#TRPBF-ND; RoHS: TRUE
footprint LT-MS8E-8-1880X1680TP_N (SOP, 8-Leads, Body 3.1x3.1mm, Pitch 0.65mm, Thermal Pad 1.88x1.68mm, IPC Medium Density)
footprint LT-MS8E-8-1880X1680TP_L (SOP, 8-Leads, Body 3.1x3.1mm, Pitch 0.65mm, Thermal Pad 1.88x1.68mm, IPC High Density)
footprint LT-MS8E-8-1880X1680TP_M (SOP, 8-Leads, Body 3.1x3.1mm, Pitch 0.65mm, Thermal Pad 1.88x1.68mm, IPC Low Density)
pins: 1 SW (power) "Switch Node Connection to Inductor. This pin connects to the drains of the internal power MOSFET switches.", 2 VIN (power) "Main Supply Pin. A ceramic bypass capacitor should be tied between this pin and GND (Pin 8).", 3 ISET (in), 4 SS (in), 5 RUN (in), 6 VFB (in) "Ground Connection for Internal Circuitry and Power Path Return. Tie directly to local ground plane.", 7 HYST (oc), 8 GND (power) "Ground.", 9 EP (power) "The exposed pad must be soldered to the printed circuit board ground plane for optimal electrical and thermal performance."

## LTC3633AEFE#PBF
designator U?
Dual Channel 3 A, Monolithic Synchronous Step-Down Regulator, 28-pin SOP (FE-28-EPV-EB), -40 to 125 degC, Pb-Free; Manufacturer: Linear Technology; PartNumber: LTC3633AEFE#PBF; Number of Outputs: 2; PackageReference: FE-28; PackageDescription: 28-Pin Plastic TSSOP, Body 9.7 x 4.4 mm, Pitch 0.65 mm; Supplier 1: Digi-Key; Supplier Part Number 1: LTC3633AEFE#PBF-ND; RoHS: TRUE
footprint LT-FE-28-EPV-EB_N (SOP, 28-Leads, Body 9.8x4.5mm, Pitch 0.65mm, Thermal Pad 4.75x2.74mm, IPC Medium Density)
footprint LT-FE-28-EPV-EB_L (SOP, 28-Leads, Body 9.8x4.5mm, Pitch 0.65mm, Thermal Pad 4.75x2.74mm, IPC High Density)
footprint LT-FE-28-EPV-EB_M (SOP, 28-Leads, Body 9.8x4.5mm, Pitch 0.65mm, Thermal Pad 4.75x2.74mm, IPC Low Density)
part A pins: 1 ITH1 "Channel 1 Error Amplifier Output and Switching Regulator Compensation Pin. Connect this pin to appropriate external components to compensate the regulator loop frequency response. Connect this pin to INTVCC to use the (See Datasheet)", 2 TRACKSS1 (in), 3 VFB1 (in) "Channel 1 Output Feedback Voltage Pin. Input to the error amplifier that compares the feedback voltage to the internal 0.6V reference voltage. Connect this pin to a resistor divider network to program the desired output (See Datasheet)", 4 PGOOD1 (hiz) "Channel 1 Open-Drain Power Good Output Pin. PGOOD1 is pulled to ground when the voltage on the VFB1 pin is not within +/-8% (typical) of the internal 0.6V reference. PGOOD1 becomes high impedance once the VFB1 pin returns to (See Datasheet)", 6 RUN1 (in) "Channel 1 Regulator Enable Pin. Enables channel 1 operation by tying RUN1 above 1.22V. Tying it below 1V places channel 1 into shutdown. Do not float this pin.", 23 BOOST1, 24 VIN1 (power), 25 VIN1 (power), 26 SW1 (power) "Channel 1 Switch Node Connection to External Inductor. Voltage swing of SW is from a diode voltage drop below ground to VIN.", 27 SW1 (power) "Channel 1 Switch Node Connection to External Inductor. Voltage swing of SW is from a diode voltage drop below ground to VIN.", 28 VON1 (in)
part B pins: 9 RUN2 (in) "Channel 2 Regulator Enable Pin. Enables channel 2 operation by tying RUN2 above 1.22V. Tying it below 1V places channel 2 into shutdown. Do not float this pin.", 11 PGOOD2 (hiz) "Channel 2 Open-Drain Power Good Output Pin. PGOOD2 is pulled to ground when the voltage on the VFB2 pin is not within +/-8% (typical) of the internal 0.6V reference. PGOOD2 becomes high impedance once the VFB2 pin returns to (See Datasheet)", 12 VFB2 (in) "Channel 2 Output Feedback Voltage Pin. Input to the error amplifier that compares the feedback voltage to the internal 0.6V reference voltage. Connect this pin to a resistor divider network to program the desired output (See Datasheet)", 13 TRACKSS2 (in), 14 ITH2 "Channel 2 Error Amplifier Output and Switching Regulator Compensation Pin. Connect this pin to appropriate external components to compensate the regulator loop frequency response. Connect this pin to INTVCC to use the (See Datasheet)", 15 VON2 (in), 16 SW2 (power) "Channel 2 Switch Node Connection to External Inductor. Voltage swing of SW is from a diode voltage drop below ground to VIN.", 17 SW2 (power) "Channel 2 Switch Node Connection to External Inductor. Voltage swing of SW is from a diode voltage drop below ground to VIN.", 18 VIN2 (power) "Power Supply Input for Channel 2. Input voltage to the on chip power MOSFETs on channel 2. This input is capable of operating from a different supply voltage than VIN1.", 19 VIN2 (power) "Power Supply Input for Channel 2. Input voltage to the on chip power MOSFETs on channel 2. This input is capable of operating from a different supply voltage than VIN1.", 20 BOOST2
part C pins: 5 PHMODE (in), 7 MODE/SYNC (in), 8 RT "Oscillator Frequency Program Pin. Connect an external resistor (between 80k to 640k) from this pin to SGND in order to program the frequency from 500kHz to 4MHz. When RT is tied to INTVCC, the switching frequency will (See Datasheet)", 10 SGND (power) "Signal Ground Pin. This pin should have a low noise connection to reference ground. The feedback resistor network, external compensation network, and RT resistor should be connected to this ground.", 21 V2P5 (power) "2.5V Regulator Output. Outputs a regulated 2.5V supply voltage capable of supplying 10mA. Bypass this pin with a minimum of 1uF low ESR ceramic capacitor. Tie this pin to INTVCC when this output is not being used in the (See Datasheet)", 22 INTVCC (power) "Internal 3.3V Regulator Output. The internal power drivers and control circuits are powered from this voltage. The internal regulator is disabled when both channel 1 and channel 2 are disabled with the RUN1/ RUN2 inputs. (See Datasheet)", 29 EP (power) "Power Ground Pin. The (-) terminal of the input bypass capacitor, CIN, and the (-) terminal of the output capacitor, COUT, should be tied to this pin with a low impedance connection. This pin must be soldered to the PCB to (See Datasheet)"

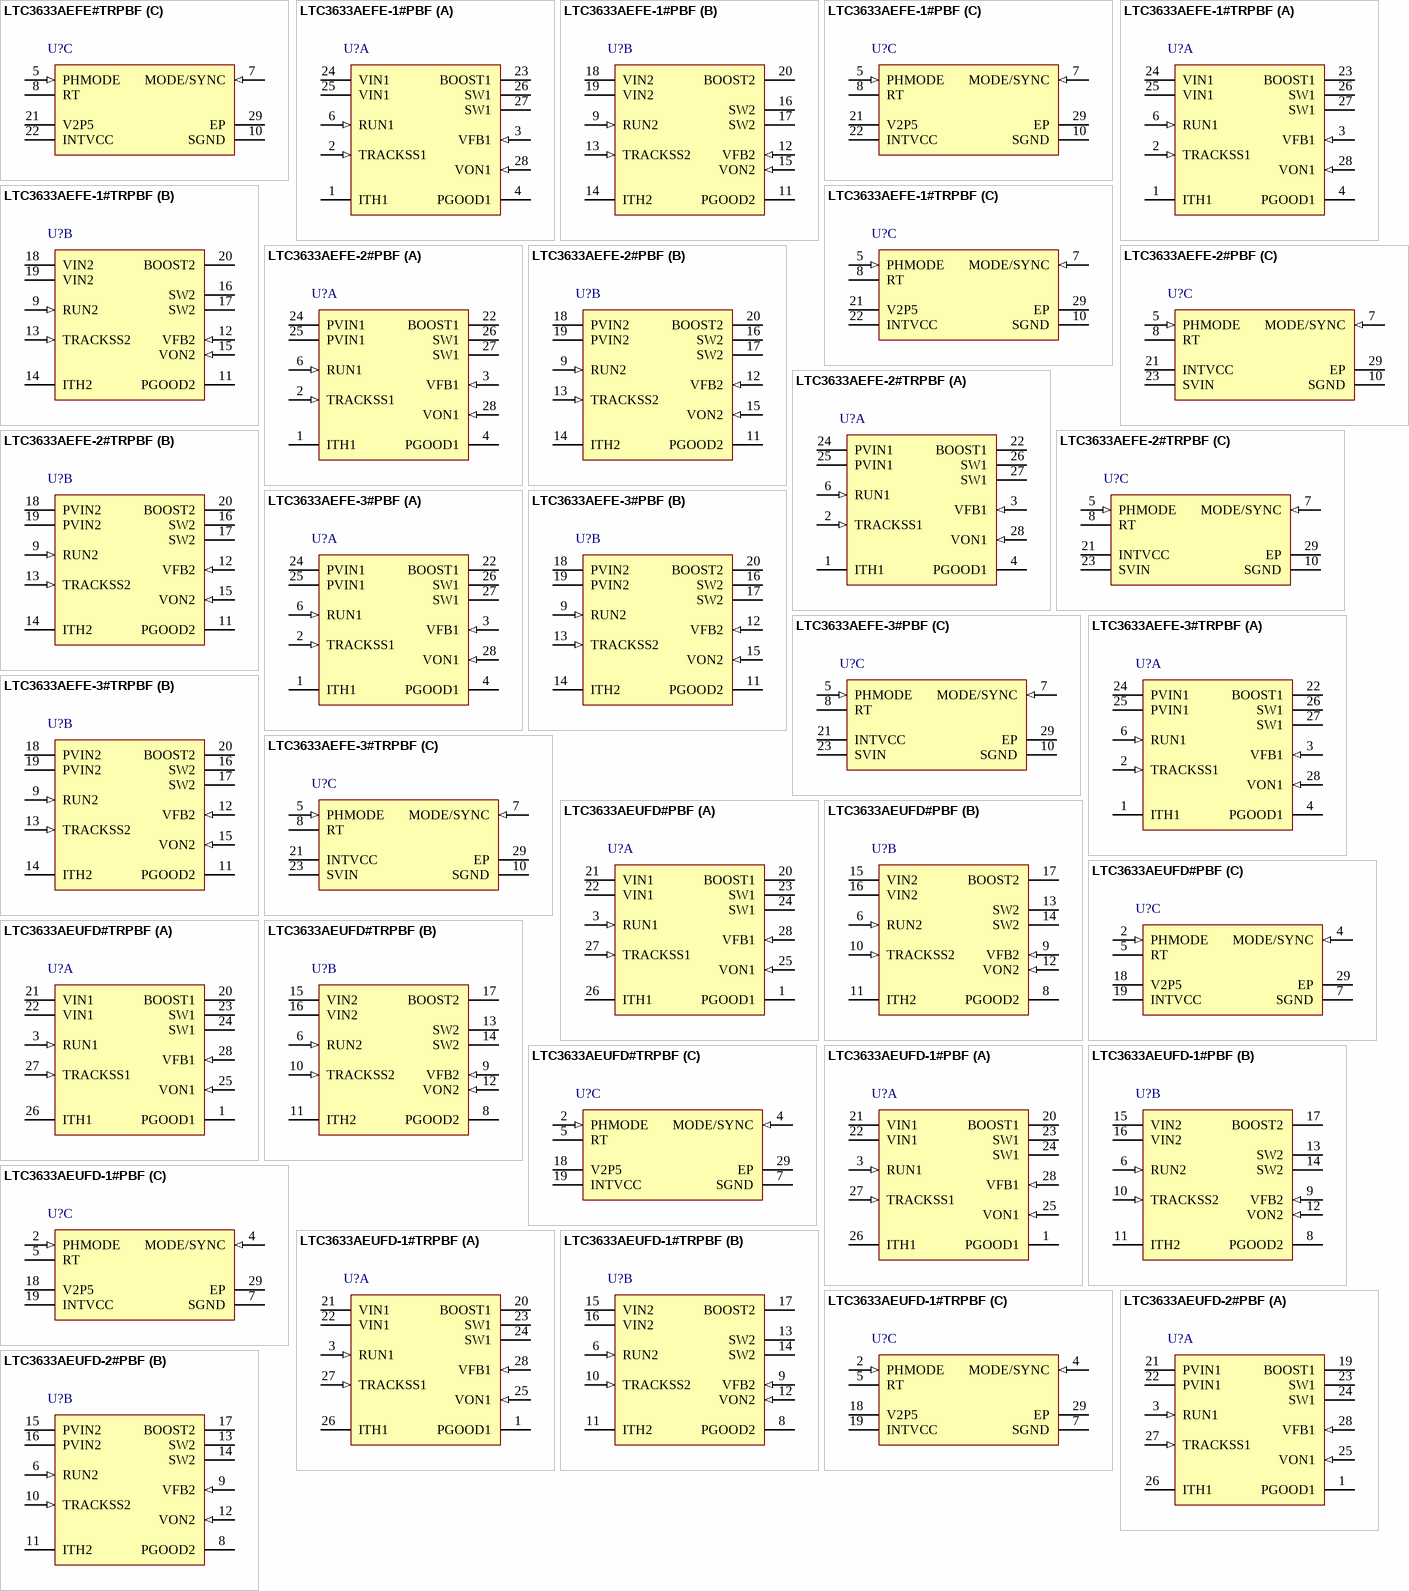
[diagram p44: symbols LTC3633AEFE#TRPBF to LTC3633AEUFD-2#PBF]